# Altium footprint library Molex_GNSS_antenna_1462350001.PcbLib: 1 footprints
Each footprint in its own frame and in the unit in brackets; x right, y up, seen from the top. Pads: shape width x height; smd on the part's side, far side on the other; paste and mask are expansions set on the pad; w line width, h text height; cw(c..) or ccw(c..) is an arc to the next point about the centre after c.
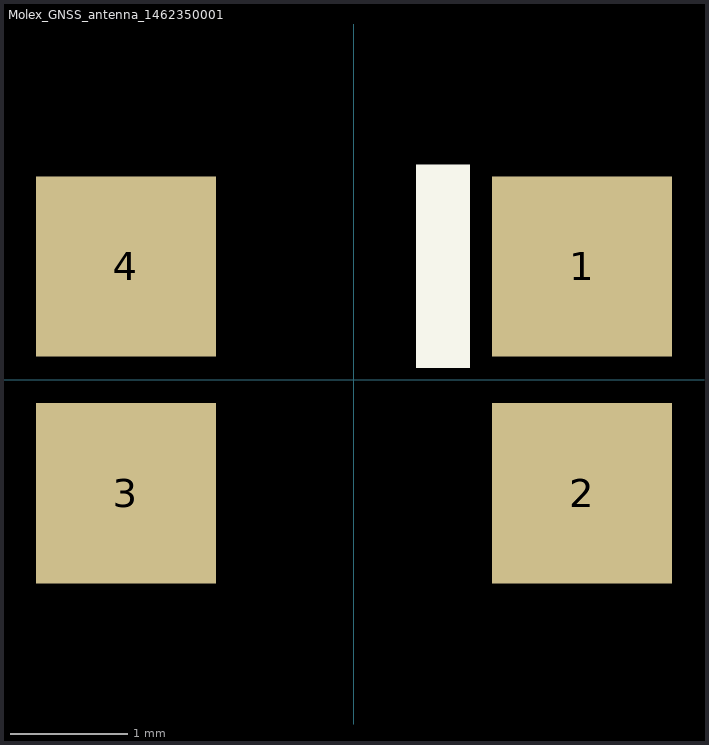
[diagram p0: the footprint, top view; thin cyan lines are the x and y axes]

## Molex_GNSS_antenna_1462350001 [mm] "Helix SMT GPS antenna"
height 4
pads (4):
  rect 1.54x1.54 smd: 1(1.95,0.97) 2(1.95,-0.97) 3(-1.95,-0.97) 4(-1.95,0.97)
Top Overlay:
  rectangle: 0.53,0.1 0.99,1.84
3D body "1462350001.stp": height 4, standoff 0, extent -2.535,-1.535 2.535,1.535